# Altium schematic symbol library tempsensor.SCHLIB: 20 symbols
Pins are listed as number, name and electrical type; pins without a type are passive.

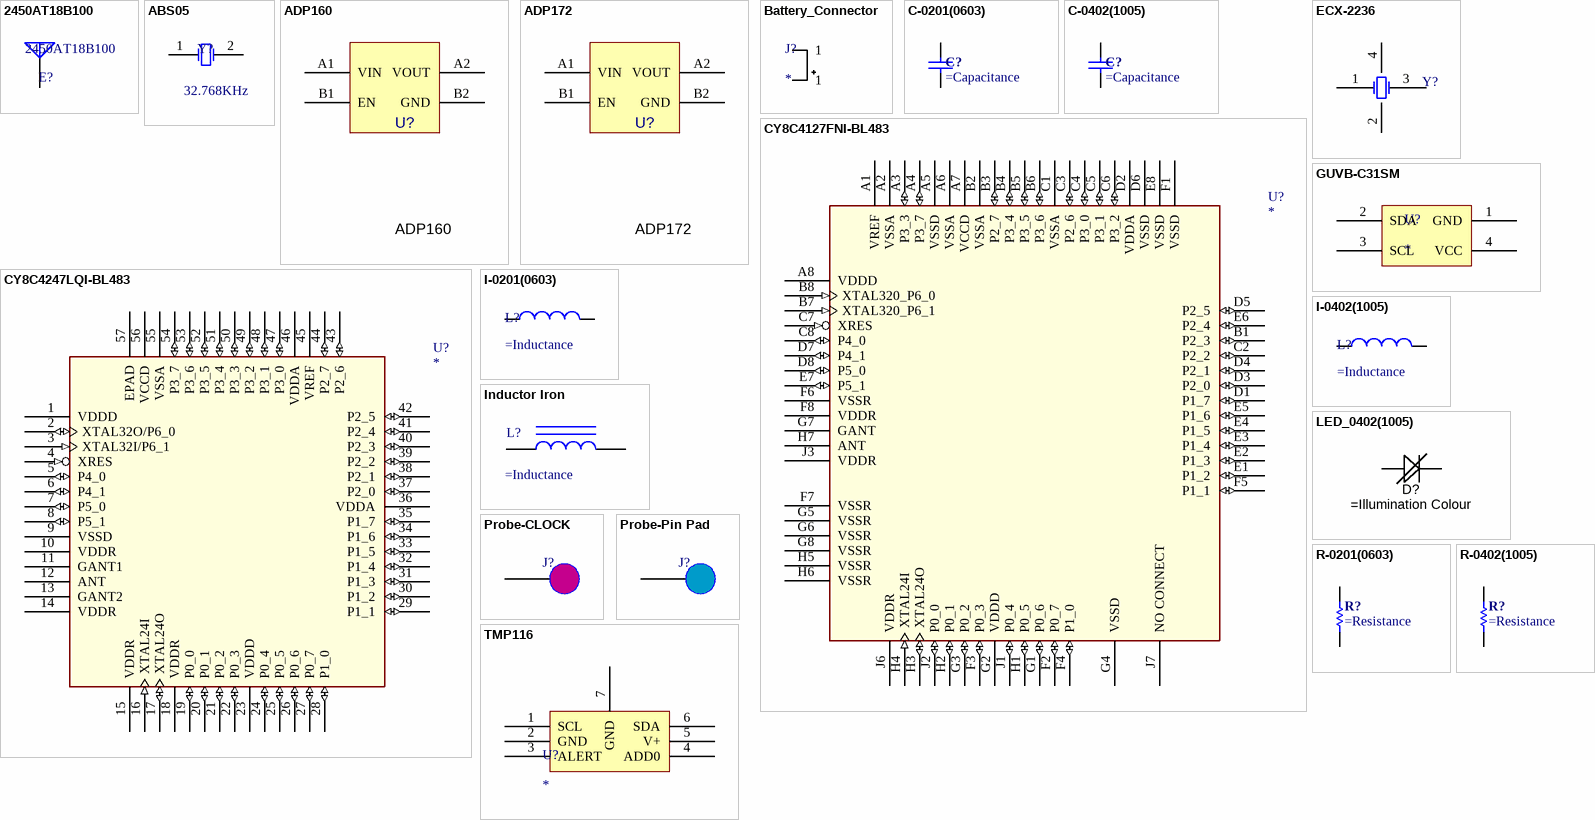
[diagram p0: symbols 2450AT18B100 to TMP116]

## 2450AT18B100
designator E?
2.4 GHz BLE Antenna; Manufacturer: Johanson; Manufacturer Part Number: 2450AT18B100E; Description 1: JOHANSON TECHNOLOGY         2450AT18B100E             ANTENNA, CERAMIC, 2.45GHZ; Impedance: 50R; Bandwidth: 100MHz; Power Rating: 3W; Frequency: 2.45GHz; Number of Bands: 1; Return Loss: -9.5dB; Max Frequency: 2.5GHz; Gain: -0.5dB; Supplier 1: Digi-Key; Supplier Part Number 1: 712-1006-1-ND; Stock 1: 187598; Pricing 1: 1=0.62, 10=0.541, 25=0.4788, 100=0.4172, 250=0.3631, 500=0.309, 1000=0.2472 (USD); Mount: Surface Mount; Case/Package: CSMD; Contact Plating: Tin; Packaging: Tape and Reel; Package Quantity: 1; Max Power Dissipation: 3W; Termination: Solder; Length: 3.2mm; Height: 0.051inch; Width: 1.6mm; REACH SVHC: No SVHC; ComponentLink1URL: https://datasheet.ciiva.com/1124/1318299-1124918.pdf; ComponentLink1Description: https://datasheet.ciiva.com/1124/1318299-1124918.pdf; ComponentLink2URL: https://datasheet.ciiva.com/24025/antenna-2450at18b100-242422-24025839.pdf; ComponentLink2Description: https://datasheet.ciiva.com/24025/antenna-2450at18b100-242422-24025839.pdf
footprint 2450AT18B100 (2.4GHz Mini Antenna SMD, 50 ohm Resistence)
pins: 1 A

## ABS05
designator Y?, comment 32.768KHz
Crystal Oscillator; Manufacturer: Abracon; Manufacturer Part Number: ABS05-32.768KHZ-T; Description 1: 32.768kHz ±20ppm Crystal 12.5pF 90 kOhm -40°C ~ 85°C  Surface Mount 2-SMD; Frequency Tolerance: 20ppm; Load Capacitance: 12.5pF; ESR (Equivalent Series Resistance): 90kR; Supplier 1: Digi-Key; Supplier Part Number 1: 535-11899-1-ND; Stock 1: 92285; Pricing 1: 1=1.03, 10=0.911, 50=0.8514, 100=0.7524, 500=0.7128, 1000=0.594 (USD); Mount: Surface Mount; Case/Package: SMD/SMT; Number of Pins: 2; Min Operating Temperature: -40°C; Max Operating Temperature: 85°C; Packaging: Tape and Reel; Package Quantity: 3000; Frequency: 32.768kHz; Tolerance: 20ppm; Termination: SMD/SMT; Series Resistance: 90kR; Length: 1.6mm; Height: 0.02inch; Width: 0.039inch; Depth: 1mm; Radiation Hardening: No; REACH SVHC: No SVHC; Lead Free: Lead Free; ComponentLink1URL: https://datasheet.ciiva.com/23810/abs05-23810480.pdf; ComponentLink1Description: https://datasheet.ciiva.com/23810/abs05-23810480.pdf; ComponentLink2URL: https://datasheet.ciiva.com/6728/abs05-6728949.pdf; ComponentLink2Description: https://datasheet.ciiva.com/6728/abs05-6728949.pdf; ComponentLink3URL: https://datasheet.ciiva.com/6728/abs05-6728950.pdf; ComponentLink3Description: https://datasheet.ciiva.com/6728/abs05-6728950.pdf; ComponentLink4URL: https://datasheet.ciiva.com/16411/abs05-16411149.pdf; ComponentLink4Description: https://datasheet.ciiva.com/16411/abs05-16411149.pdf
footprint ABS05 (32.768 kHz CRYSTAL 12.5 PF +/-20ppm)
pins: 1 OSC1, 2 OSC2

## ADP160
designator U?
3V LDO; Manufacturer: Analog Devices; Manufacturer Part Number: ADP160ACBZ-3.0-R7; Description 2: LDO Regulator Pos 3V 0.15A 4-Pin WLCSP T/R; Dropout Voltage: 105mV; Output Current: 150mA; Max Input Voltage: 5.5V; Min Input Voltage: 2.2V; Number of Outputs: 1; Min Current Limit: 220mA; Polarity: Positive; Accuracy: 2%; Nominal Supply Current: 42uA; Quiescent Current: 0pA; Power Supply Rejection Ratio (PSRR): 60dB; Min Output Voltage: 1.2V; Max Output Voltage: 4.2V; Supplier Part Number 1: ADP172ACBZ-3.0-R7CT-ND; Supplier 2: Digi-Key; Supplier Part Number 2: ADP160ACBZ-3.0-R7CT-ND; Stock 2: 5241; Pricing 2: 1=1.16, 10=1.033, 100=0.8055, 500=0.6654, 1000=0.5253 (USD); Mount: Surface Mount; Number of Pins: 4; Contact Plating: Copper,Tin,Silver; Min Operating Temperature: -40°C; Max Operating Temperature: 125°C; Package Quantity: 3000; Packaging: Tape and Reel; Max Output Current: 150mA; Output Voltage: 3V; Number of Regulators: 1; Operating Supply Current: 42uA; Max Supply Current: 42uA; Radiation Hardening: No; Lead Free: Contains Lead; ComponentLink1URL: https://datasheet.ciiva.com/8242/adp160-161-162-163-8242023.pdf; ComponentLink1Description: https://datasheet.ciiva.com/8242/adp160-161-162-163-8242023.pdf; ComponentLink2URL: https://datasheet.ciiva.com/3224/adp160-161-162-163-3224664.pdf; ComponentLink2Description: https://datasheet.ciiva.com/3224/adp160-161-162-163-3224664.pdf; ComponentLink3URL: https://datasheet.ciiva.com/17365/adp160-161-162-163-17365674.pdf; ComponentLink3Description: https://datasheet.ciiva.com/17365/adp160-161-162-163-17365674.pdf
footprint ADP160 (4-Ball WLCSP, CB-4-4)
pins: A1 VIN, A2 VOUT, B1 EN, B2 GND

## ADP172
designator U?
3V LDO; Manufacturer: Analog Devices; Manufacturer Part Number: ADP172ACBZ-3.0-R7; Description 1: Linear Voltage Regulator IC Positive Fixed 1 Output 3V 300mA 4-WLCSP (0.95x1.03); Dropout Voltage: 50mV; Number of Outputs: 1; Min Input Voltage: 1.6V; Max Input Voltage: 3.6V; Max Output Current: 300mA; Min Current Limit: 400mA; Polarity: Positive; Nominal Supply Current: 23uA; Quiescent Current: 60uA; Power Supply Rejection Ratio (PSRR): 73dB; Max Supply Current: 170uA; Min Output Voltage: 800mV; Supplier 1: Digi-Key; Supplier Part Number 1: ADP172ACBZ-3.0-R7CT-ND; Stock 1: 438; Pricing 1: 1=1.13, 10=1.013, 100=0.7896, 500=0.6523, 1000=0.515 (USD); Mount: Surface Mount; Number of Pins: 4; Contact Plating: Copper,Tin,Silver; Min Operating Temperature: -40°C; Max Operating Temperature: 125°C; Package Quantity: 3000; Packaging: Tape and Reel; Output Voltage: 3V; Output Current: 300mA; Number of Regulators: 1; Operating Supply Current: 23uA; Max Output Voltage: 3V; Radiation Hardening: No; Lead Free: Contains Lead; ComponentLink1URL: https://datasheet.ciiva.com/2056/adp172-2056690.pdf; ComponentLink1Description: https://datasheet.ciiva.com/2056/adp172-2056690.pdf; ComponentLink2URL: https://datasheet.ciiva.com/2056/adp172-2056691.pdf; ComponentLink2Description: https://datasheet.ciiva.com/2056/adp172-2056691.pdf; ComponentLink3URL: https://datasheet.ciiva.com/2056/adp172-2056692.pdf; ComponentLink3Description: https://datasheet.ciiva.com/2056/adp172-2056692.pdf; ComponentLink4URL: https://datasheet.ciiva.com/3224/adp172-3224693.pdf; ComponentLink4Description: https://datasheet.ciiva.com/3224/adp172-3224693.pdf; ComponentLink5URL: https://datasheet.ciiva.com/17365/adp172-17365245.pdf; ComponentLink5Description: https://datasheet.ciiva.com/17365/adp172-17365245.pdf; ComponentLink6URL: https://datasheet.ciiva.com/48694/001251525-da-01-en-ic-reg-ldo-adp172acbz-3-0-r7-wlcsp-4-adi-48694412.pdf; ComponentLink6Description: https://datasheet.ciiva.com/48694/001251525-da-01-en-ic-reg-ldo-adp172acbz-3-0-r7-wlcsp-4-adi-48694412.pdf
footprint ADP172 (4-Ball WLCSP, CB-4-4)
pins: A1 VIN, A2 VOUT, B1 EN, B2 GND

## Battery_Connector
designator J?
footprint Battery_PAD
pins: 1, 1

## C-0201(0603)
designator C?
___ OHM ___ mW 0201(0603) SMD
footprint CAP_0201(0603)_M (Chip Capacitor, Body 0.6x0.3mm, Height 0.33mm, IPC Low Density)
pins: 1, 2

## C-0402(1005)
designator C?
___ OHM ___ mW 0402(1005) SMD
footprint CAP_0402(1005)_M (Chip Capacitor, Body 1.0x0.5mm, Height 0.6mm, IPC Low Density)
pins: 1, 2

## CY8C4127FNI-BL483
designator U?
PSOC 4 CYBLE; Manufacturer: Cypress; Manufacturer Part Number: CY8C4247FNI-BL483T; RAM Size: 16KB; Interface: I2C,SPI,I2S,IrDA,SSP,UART,USART,LIN; Number of I/Os: 36; Number of Timers/Counters: 4; Frequency: 48MHz; Oscillator Type: Internal; Data Bus Width: 32b; Watchdog Timer: Yes; Memory Type: FLASH; Memory Size: 128KB; Peripherals: Brown-out Detect/Reset,POR,PWM,WDT,LVD,LCD; Min Supply Voltage: 1.71V; Max Supply Voltage: 5.5V; Core Architecture: ARM; Supplier 1: Digi-Key; Supplier Part Number 1: 428-4490-ND; Stock 1: 250; Pricing 1: 1=7.05, 10=6.345, 25=5.7812, 100=5.217, 250=4.794, 500=4.371, 1000=3.807, 2500=3.666 (USD); Mount: Surface Mount; Contact Plating: Copper,Tin,Silver; Min Operating Temperature: -40°C; Max Operating Temperature: 85°C; Packaging: Tape and Reel; Number of Programmable I/O: 36; Max Frequency: 48MHz; Package Quantity: 2000; Lead Free: Lead Free; ComponentLink1URL: http://www.cypress.com/?docID=50617; ComponentLink1Description: http://www.cypress.com/?docID=50617; ComponentLink2URL: http://www.cypress.com/file/137466/download; ComponentLink2Description: http://www.cypress.com/file/137466/download
footprint WLCSP-68 (PSOC 4 BLE CY8C4247FNI-BL483 N40P8X9_352X391X55)
footprint WLCSP-68_MOD (PSOC 4 BLE CY8C4247FNI-BL483 N40P8X9_352X391X55)
pins: A1 VREF (power), A2 VSSA (power), A3 P3_3 (io), A4 P3_7 (io), A5 VSSD (power), A6 VSSA (power), A7 VCCD (power), A8 VDDD (power), B1 P2_3 (io), B2 VSSA (power), B3 P2_7 (io), B4 P3_4 (io), B5 P3_5 (io), B6 P3_6 (io), B7 XTAL320_P6_1 (in), B8 XTAL320_P6_0 (in), C1 VSSA (power), C2 P2_2 (io), C3 P2_6 (io), C4 P3_0 (io), C5 P3_1 (io), C6 P3_2 (io), C7 XRES (in), C8 P4_0 (io), D1 P1_7 (io), D2 VDDA (power), D3 P2_0 (io), D4 P2_1 (io), D5 P2_5 (io), D6 VSSD (power), D7 P4_1 (io), D8 P5_0 (io), E1 P1_2 (io), E2 P1_3 (io), E3 P1_4 (io), E4 P1_5 (io), E5 P1_6 (io), E6 P2_4 (io), E7 P5_1 (io), E8 VSSD (power), F1 VSSD (power), F2 P0_7 (io), F3 P0_3 (io), F4 P1_0 (io), F5 P1_1 (io), F6 VSSR (power), F7 VSSR (power), F8 VDDR (power), G1 P0_6 (io), G2 VDDD (power), G3 P0_2 (io), G4 VSSD (power), G5 VSSR (power), G6 VSSR (power), G7 GANT (power), G8 VSSR (power), H1 P0_5 (io), H2 P0_1 (io), H3 XTAL24O (io), H4 XTAL24I (in), H5 VSSR (power), H6 VSSR (power), H7 ANT, J1 P0_4 (io), J2 P0_0 (io), J3 VDDR (power), J6 VDDR (power), J7 NO CONNECT

## CY8C4247LQI-BL483
designator U?
Manufacturer: Cypress; Manufacturer Part Number: CY8C4247LQI-BL483; Description 1: MCU 32-Bit PSoC 4100 ARM Cortex M0 RISC 128KB Flash 1.8V/2.5V/3.3V/5V 56-Pin QFN EP Tray; RAM Size: 16KB; Interface: I2C,SPI,I2S,IrDA,SSP,UART,USART,LIN; Number of I/Os: 36; Number of Timers/Counters: 4; Frequency: 48MHz; Oscillator Type: Internal; Data Bus Width: 32b; Min Supply Voltage: 1.71V; Max Supply Voltage: 5.5V; Watchdog Timer: Yes; Memory Type: FLASH; Memory Size: 128KB; Peripherals: Brown-out Detect/Reset,POR,PWM,WDT,LVD,LCD; Core Architecture: ARM; Supplier 1: Digi-Key; Supplier Part Number 1: 428-3368-5-ND; Stock 1: 2788; Pricing 1: 1=6.83, 10=6.143, 25=5.5964, 100=5.0505, 250=4.641, 500=4.2315, 1000=3.6855, 2500=3.549 (USD); Mount: Surface Mount; Case/Package: QFN; Number of Pins: 56; Weight: 0.006751oz; Min Operating Temperature: -40°C; Max Operating Temperature: 85°C; Packaging: Tray; Number of Programmable I/O: 36; Max Frequency: 48MHz; Package Quantity: 260; Length: 7mm; Height: 0.6mm; Width: 7mm; REACH SVHC: No SVHC; Lead Free: Lead Free; ComponentLink1URL: https://datasheet.ciiva.com/48533/001-90479-0i-v-48533513.pdf; ComponentLink1Description: https://datasheet.ciiva.com/48533/001-90479-0i-v-48533513.pdf
footprint QFN40P700X700X60-57N
pins: 1 VDDD (power), 2 XTAL32O/P6_0 (io), 3 XTAL32I/P6_1 (in), 4 XRES (in), 5 P4_0 (io), 6 P4_1 (io), 7 P5_0 (io), 8 P5_1 (io), 9 VSSD (power), 10 VDDR (power), 11 GANT1 (power), 12 ANT, 13 GANT2 (power), 14 VDDR (power), 15 VDDR (power), 16 XTAL24I (in), 17 XTAL24O (io), 18 VDDR (power), 19 P0_0 (io), 20 P0_1 (io), 21 P0_2 (io), 22 P0_3 (io), 23 VDDD (power), 24 P0_4 (io), 25 P0_5 (io), 26 P0_6 (io), 27 P0_7 (io), 28 P1_0 (io), 29 P1_1 (io), 30 P1_2 (io), 31 P1_3 (io), 32 P1_4 (io), 33 P1_5 (io), 34 P1_6 (io), 35 P1_7 (io), 36 VDDA (power), 37 P2_0 (io), 38 P2_1 (io), 39 P2_2 (io), 40 P2_3 (io), 41 P2_4 (io), 42 P2_5 (io), 43 P2_6 (io), 44 P2_7 (io), 45 VREF (power), 46 VDDA (power), 47 P3_0 (io), 48 P3_1 (io), 49 P3_2 (io), 50 P3_3 (io), 51 P3_4 (io), 52 P3_5 (io), 53 P3_6 (io), 54 P3_7 (io), 55 VSSA (power), 56 VCCD (power), 57 EPAD (power)

## ECX-2236
designator Y?  (value not drawn)
24 MHz Crystal; Manufacturer: ECS International; Manufacturer Part Number: ECS-240-8-36CKM-TR; Description 1: Crystals 24MHz 10ppm; ESR (Equivalent Series Resistance): 60R; Frequency: 24MHz; Load Capacitance: 8pF; Frequency Stability: 10ppm; Supplier 1: Digi-Key; Supplier Part Number 1: XC1557CT-ND; Stock 1: 30313; Pricing 1: 1=1.12, 10=0.987, 50=0.9224, 100=0.8151, 500=0.7722 (USD); Mount: Surface Mount; Case/Package: SMD/SMT; Min Operating Temperature: -20°C; Max Operating Temperature: 70°C; Package Quantity: 1000; Packaging: Tape and Reel; Frequency Tolerance: 10ppm; Tolerance: 10ppm; Termination: SMD/SMT; Length: 0.098inch; Height: 0.026inch; Width: 0.079inch; ComponentLink1URL: http://www.ecsxtal.com/store/pdf/partnumber4.pdf; ComponentLink1Description: http://www.ecsxtal.com/store/pdf/partnumber4.pdf; ComponentLink2URL: http://www.mouser.com/ds/2/122/ECX-2236-15751.pdf; ComponentLink2Description: http://www.mouser.com/ds/2/122/ECX-2236-15751.pdf
footprint ECX-2236 (48 MHz CRYSTAL 2.5X2.0mm)
pins: 1 OSC1, 2 GND, 3 OSC2, 4 GND

## GUVB-C31SM
designator U?
footprint GUVB-C31SM
pins: 1 GND, 2 SDA, 3 SCL, 4 VCC

## I-0201(0603)
designator L?
footprint RES_0201(0603)_M (Chip Resistor, Body 0.6x0.3mm, IPC Low Density)
pins: 1, 2

## I-0402(1005)
designator L?
footprint IND_0402(1005)_M (Chip Inductor, 2-Leads, Body 1.1x0.6mm, IPC Low Density)
pins: 1, 2

## Inductor Iron
designator L?
Magnetic-Core Inductor
footprint IND_0402(1005)_M (Chip Inductor, 2-Leads, Body 1.1x0.6mm, IPC Low Density)
pins: 1, 2

## LED_0402(1005)
designator D?
LED, 0402(1005) SMD
footprint LED_0402(1005) (SMD, 2-Leads, Body 1x0.5mm)
pins: A, K

## Probe-CLOCK
designator J?  (value not drawn)
footprint Pogo-CLOCK-PAD
pins: 1

## Probe-Pin Pad
designator J?  (value not drawn)
footprint Pogo-Pin-Pad
pins: 1

## R-0201(0603)
designator R?
___ OHM ___ mW 0201(0603) SMD
footprint RES_0201(0603)_M (Chip Resistor, Body 0.6x0.3mm, IPC Low Density)
footprint Model Name (Model Description)
pins: 1, 2

## R-0402(1005)
designator R?
___ OHM ___ mW 0402(1005) SMD
footprint RES_0402(1005)_M (Chip Resistor, 2-Leads, Body 1.05x0.55mm, IPC Low Density)
pins: 1, 2

## TMP116
designator U?
TI Digital I2C Temperature Sensor; Manufacturer: Texas Instruments; Manufacturer Part Number: TMP116AIDRVT; Interface: I2C,SMBus,2-Wire; Supplier 1: Digi-Key; Supplier Part Number 1: 296-46944-1-ND; Stock 1: 995; Pricing 1: 1=4.01, 10=3.599, 100=2.9485 (USD); Min Operating Temperature: -55°C; Max Operating Temperature: 150°C
footprint WSON-6 (SON, 6-Leads, Body 2x2mm, Pitch 0.65mm, Thermal Pad 1X1.6mm)
pins: 1 SCL, 2 GND, 3 ALERT, 4 ADD0, 5 V+, 6 SDA, 7 GND